# Altium schematic symbol library PLA2216_sonda.SchLib: 15 symbols
Pins are listed as number, name and electrical type; pins without a type are passive.

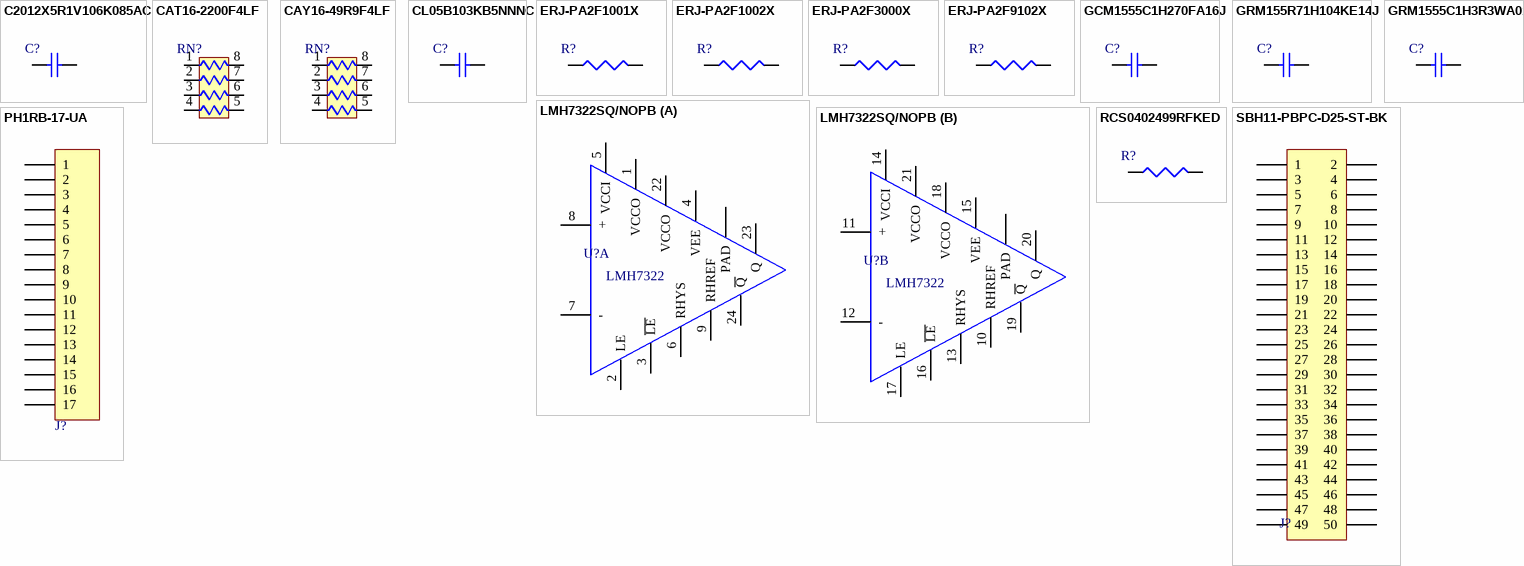
[diagram p0: symbols C2012X5R1V106K085AC to SBH11-PBPC-D25-ST-BK]

## C2012X5R1V106K085AC
designator C?, comment 10uF,35V  (value not drawn)
Multilayer Ceramic Capacitor, 10 uF, 35 V, ± 10%, X5R, 0805 [2012 Metric]; Manufacturer: TDK; Manufacturer Part Number: C2012X5R1V106K085AC; Material: 4241ConductorMaterial; RoHS: Yes; Stock 1: 379667; Pricing 1: 1=0,49, 10=0,326, 50=0,24, 100=0,1955, 500=0,15434, 1000=0,13034 (USD); ComponentLink1URL: https://datasheet.ciiva.com/14894/tdkmlcccaprange-14894527.pdf?src-supplier=Digikey; ComponentLink1Description: https://datasheet.ciiva.com/14894/tdkmlcccaprange-14894527.pdf?src-supplier=Digikey; Supplier 1: Digikey; Supplier Part Number 1: 445-14417-1-ND; Category: Ceramic Capacitors
footprint C0805
pins: 1, 2

## CAT16-2200F4LF
designator RN?, comment 220R  (value not drawn)
Res Thick Film Array 220 Ohm 1% ISOL Molded 8-Pin 1206(4 X 0603) Concave SMD Paper T/R; Manufacturer Part Number: CAT16-2200F4LF; Manufacturer: Bourns; RoHS: Yes; Stock 1: 22371; Pricing 1: 1=0,13, 10=0,11, 25=0,08, 50=0,0622, 100=0,0422, 250=0,03468, 500=0,02756, 1000=0,01955 (USD); ComponentLink1URL: https://datasheet.ciiva.com/30021/catcay-30021055.pdf?src-supplier=Avnet; ComponentLink1Description: https://datasheet.ciiva.com/30021/catcay-30021055.pdf?src-supplier=Avnet; ComponentLink2URL: https://datasheet.ciiva.com/6494/catcay-6494207.pdf?src-supplier=Digikey; ComponentLink2Description: https://datasheet.ciiva.com/6494/catcay-6494207.pdf?src-supplier=Digikey; ComponentLink3URL: https://datasheet.ciiva.com/6494/catcay-6494213.pdf?src-supplier=Digikey; ComponentLink3Description: https://datasheet.ciiva.com/6494/catcay-6494213.pdf?src-supplier=Digikey; Supplier 1: Digikey; Supplier Part Number 1: CAT16-2200F4LFCT-ND; Category: Resistor Arrays
pins: 1, 2, 3, 4, 5, 6, 7, 8

## CAY16-49R9F4LF
designator RN?, comment 49R9  (value not drawn)
Res Thick Film Array 49.9 Ohm 1% 0.25W(1/4W) ±200ppm/C ISOL 8-Pin 1206(4 X 0603) Convex SMD T/R; Manufacturer: Bourns; Manufacturer Part Number: CAY16-49R9F4LF; RoHS: Yes; Stock 1: 58828; Pricing 1: 1=0,1, 10=0,082, 25=0,06, 50=0,0466, 100=0,0317, 250=0,026, 500=0,02066, 1000=0,01467 (USD); ComponentLink1URL: https://datasheet.ciiva.com/5023/catcay-5693-5023814.pdf?src-supplier=Mouser; ComponentLink1Description: https://datasheet.ciiva.com/5023/catcay-5693-5023814.pdf?src-supplier=Mouser; ComponentLink2URL: https://datasheet.ciiva.com/6533/catcay-6533639.pdf?src-supplier=Digikey; ComponentLink2Description: https://datasheet.ciiva.com/6533/catcay-6533639.pdf?src-supplier=Digikey; ComponentLink3URL: https://datasheet.ciiva.com/6533/catcay-6533641.pdf?src-supplier=Digikey; ComponentLink3Description: https://datasheet.ciiva.com/6533/catcay-6533641.pdf?src-supplier=Digikey; ComponentLink4URL: https://datasheet.ciiva.com/6533/catcay-6533643.pdf?src-supplier=Digikey; ComponentLink4Description: https://datasheet.ciiva.com/6533/catcay-6533643.pdf?src-supplier=Digikey; ComponentLink5URL: https://datasheet.ciiva.com/3264/catcay-3264893.pdf?src-supplier=Avnet; ComponentLink5Description: https://datasheet.ciiva.com/3264/catcay-3264893.pdf?src-supplier=Avnet; ComponentLink6URL: https://datasheet.ciiva.com/3264/catcay-3264894.pdf?src-supplier=Avnet; ComponentLink6Description: https://datasheet.ciiva.com/3264/catcay-3264894.pdf?src-supplier=Avnet; ComponentLink7URL: https://datasheet.ciiva.com/14583/70155479-14583853.pdf?src-supplier=Allied+Electronics; ComponentLink7Description: https://datasheet.ciiva.com/14583/70155479-14583853.pdf?src-supplier=Allied+Electronics; ComponentLink8URL: https://datasheet.ciiva.com/1478/1849489-1478915.pdf?src-supplier=Element14; ComponentLink8Description: https://datasheet.ciiva.com/1478/1849489-1478915.pdf?src-supplier=Element14; ComponentLink9URL: https://datasheet.ciiva.com/48692/001055403-da-01-en-wid-arr-cay16-49r9f4lf-49-9-ohm-4-w-1206-48692314.pdf?src-supplier=Conrad; ComponentLink9Description: https://datasheet.ciiva.com/48692/001055403-da-01-en-wid-arr-cay16-49r9f4lf-49-9-ohm-4-w-1206-48692314.pdf?src-supplier=Conrad; Supplier 1: Digikey; Category: Resistor Arrays; Supplier Part Number 1: CAY16-49R9F4LFCT-ND
pins: 1, 2, 3, 4, 5, 6, 7, 8

## CL05B103KB5NNNC
designator C?, comment 10nF  (value not drawn)
Multilayer Ceramic Capacitor, 0.01 uF, 50 V, ± 10%, X7R, 0402 [1005 Metric]; Manufacturer Part Number: CL05B103KB5NNNC; Manufacturer: Samsung; Voltage Rating: 50V; RoHS: Yes; Stock 1: 5417081; Pricing 1: 1=0,1, 10=0,014, 50=0,008, 100=0,0062, 500=0,0047, 1000=0,00369, 2500=0,00336, 5000=0,00309 (USD); Mount: Surface Mount; Case/Package: 0402; Case Code (Metric): 1005; Case Code (Imperial): 0402; Material: Ceramic; Min Operating Temperature: -55°C; Max Operating Temperature: 125°C; Tolerance: 10%; Packaging: Tape and Reel; Capacitance: 10nF; Dielectric: X7R; Voltage: 50V; Series: CL; Construction: Flat; Voltage Rating (DC): 50V; Package Quantity: 1; Length: 1mm; Width: 0.02inch; Height: 0.5mm; Depth: 0.5mm; Thickness: 0.022inch; Radiation Hardening: No; RoHS Compliant: Yes; Lead Free: 5697LeadFree; ComponentLink1URL: https://datasheet.ciiva.com/15195/getdatasheetpartid-359682-15195636.pdf?src-supplier=Verical; ComponentLink1Description: https://datasheet.ciiva.com/15195/getdatasheetpartid-359682-15195636.pdf?src-supplier=Verical; ComponentLink2URL: https://datasheet.ciiva.com/29198/458761-da-01-en-vs-kondensator-0402-29198432.pdf?src-supplier=Conrad; ComponentLink2Description: https://datasheet.ciiva.com/29198/458761-da-01-en-vs-kondensator-0402-29198432.pdf?src-supplier=Conrad; ComponentLink3URL: https://datasheet.ciiva.com/26309/mlcc-catalogdownload2013-eng-26309005.pdf?src-supplier=Distrelec; ComponentLink3Description: https://datasheet.ciiva.com/26309/mlcc-catalogdownload2013-eng-26309005.pdf?src-supplier=Distrelec; Category: Ceramic Capacitors; Supplier Part Number 1: 1276-1028-1-ND; Supplier 1: Digikey
pins: 1, 2

## ERJ-PA2F1001X
designator R?, comment 1k  (value not drawn)
Res Thick Film 0402 1K Ohm 1% 1/5W ±100ppm/°C Molded SMD Punched Paper T/R; Manufacturer Part Number: ERJ-PA2F1001X; Manufacturer: Panasonic; Resistance: 1kR; Max Power Dissipation: 200mW; RoHS: Yes; Stock 1: 256164; Pricing 1: 1=0,23, 10=0,117, 50=0,0782, 100=0,0667, 500=0,04782, 1000=0,04209, 5000=0,03226 (USD); Case/Package: 0402; Case Code (Metric): 1005; Case Code (Imperial): 0402; Min Operating Temperature: -55°C; Max Operating Temperature: 155°C; Packaging: Cut Tape; Temperature Coefficient: 100ppm/°C; Number of Terminations: 2; Tolerance: 1%; Features: Automotive AEC-Q200; Series: ERJ; Ratings: AEC-Q200; Category: Chip SMD Resistors; Supplier Part Number 1: P17224CT-ND; Supplier 1: Digikey
pins: 1, 2

## ERJ-PA2F1002X
designator R?, comment 10k  (value not drawn)
SMD Chip Resistor, 10 kOhm, ± 1%, 200 mW, 0402 [1005 Metric], Thick Film, Anti-Surge; Manufacturer: Panasonic; Manufacturer Part Number: ERJ-PA2F1002X; RoHS: Yes; Stock 1: 114781; Pricing 1: 1=0,23, 10=0,117, 50=0,0782, 100=0,0667, 500=0,04782, 1000=0,04209, 5000=0,03226 (USD); ComponentLink1URL: https://datasheet.octopart.com/ERJ-PA2F1002X-Panasonic-datasheet-136608609.pdf?src-supplier=Farnell; ComponentLink1Description: https://datasheet.octopart.com/ERJ-PA2F1002X-Panasonic-datasheet-136608609.pdf?src-supplier=Farnell; ComponentLink2URL: https://datasheet.octopart.com/ERJ-PA2F1002X-Panasonic-datasheet-62334979.pdf?src-supplier=Element14; ComponentLink2Description: https://datasheet.octopart.com/ERJ-PA2F1002X-Panasonic-datasheet-62334979.pdf?src-supplier=Element14; ComponentLink3URL: http://www.farnell.com/datasheets/2254497.pdf?src-supplier=Newark; ComponentLink3Description: http://www.farnell.com/datasheets/2254497.pdf?src-supplier=Newark; ComponentLink4URL: https://industrial.panasonic.com/ww/system/files/data/download/catalog/id_fixed-resistors_e_1.pdf?src-supplier=Digikey; ComponentLink4Description: https://industrial.panasonic.com/ww/system/files/data/download/catalog/id_fixed-resistors_e_1.pdf?src-supplier=Digikey; Supplier 1: Digikey; Supplier Part Number 1: P17230CT-ND; Category: Chip SMD Resistors
pins: 1, 2

## ERJ-PA2F3000X
designator R?, comment 300R  (value not drawn)
Res Thick Film 0402 300 Ohm 1% 0.2W(1/5W) ±100ppm/C Pad SMD Automotive T/R; Manufacturer: Panasonic; Manufacturer Part Number: ERJ-PA2F3000X; RoHS: No; Stock 1: 39362; Pricing 1: 1=0,23, 10=0,117, 50=0,0782, 100=0,0667, 500=0,04782, 1000=0,04209, 5000=0,03226 (USD); ComponentLink1URL: https://datasheet.octopart.com/ERJ-PA2F3000X-Panasonic-datasheet-175421126.pdf?src-supplier=Element14; ComponentLink1Description: https://datasheet.octopart.com/ERJ-PA2F3000X-Panasonic-datasheet-175421126.pdf?src-supplier=Element14; ComponentLink2URL: https://datasheet.octopart.com/ERJ-PA2F3000X-Panasonic-datasheet-68299097.pdf?src-supplier=Future+Electronics; ComponentLink2Description: https://datasheet.octopart.com/ERJ-PA2F3000X-Panasonic-datasheet-68299097.pdf?src-supplier=Future+Electronics; ComponentLink3URL: https://datasheet.octopart.com/ERJ-PA2F3000X-Panasonic-datasheet-175421126.pdf?src-supplier=Farnell; ComponentLink3Description: https://datasheet.octopart.com/ERJ-PA2F3000X-Panasonic-datasheet-175421126.pdf?src-supplier=Farnell; ComponentLink4URL: https://industrial.panasonic.com/cdbs/www-data/pdf/RDO0000/AOA0000C331.pdf?src-supplier=Digikey; ComponentLink4Description: https://industrial.panasonic.com/cdbs/www-data/pdf/RDO0000/AOA0000C331.pdf?src-supplier=Digikey; Supplier 1: Digikey; Supplier Part Number 1: P124467CT-ND; Category: Chip SMD Resistors
pins: 1, 2

## ERJ-PA2F9102X
designator R?, comment 91k  (value not drawn)
Res 91K Ohm 1% 1/4W 0402; Manufacturer: Panasonic; Manufacturer Part Number: ERJ-PA2F9102X; Power Rating: 200mW; Resistance: 91kR; Voltage Rating (DC): 50V; RoHS: No; Stock 1: 7422; Pricing 1: 1=0,23, 10=0,117, 50=0,0782, 100=0,0667, 500=0,04782, 1000=0,04209, 5000=0,03226 (USD); ComponentLink1URL: https://industrial.panasonic.com/cdbs/www-data/pdf/RDO0000/AOA0000C331.pdf?src-supplier=Digikey; ComponentLink1Description: https://industrial.panasonic.com/cdbs/www-data/pdf/RDO0000/AOA0000C331.pdf?src-supplier=Digikey; Supplier Part Number 1: P124514CT-ND; Supplier 1: Digikey; Category: Chip SMD Resistors
pins: 1, 2

## GCM1555C1H270FA16J
designator C?, comment 3,3pF  (value not drawn)
Cap Ceramic 27pF 50V C0G 1% Pad SMD 0402 125C Automotive T/R; Manufacturer: Murata; Manufacturer Part Number: GCM1555C1H270FA16J; RoHS: Yes; Stock 1: 122327; Pricing 1: 1=0,11, 10=0,073, 50=0,042, 100=0,0326, 500=0,02452, 1000=0,01926, 2500=0,01751, 5000=0,01611 (USD); RoHS Compliant: Yes; Supplier 1: Digikey; Supplier Part Number 1: 490-GCM1555C1H270FA16JCT-ND; Category: Ceramic Capacitors
pins: 1, 2

## GRM155R71H104KE14J
designator C?, comment 100nF  (value not drawn)
Multilayer Ceramic Capacitor, 0.1 uF, 50 V, ± 10%, X7R, 0402 [1005 Metric]; Manufacturer Part Number: GRM155R71H104KE14J; Manufacturer: Murata; Material: 4241ConductorMaterial; Voltage Rating: 50V; RoHS: Yes; Stock 1: 5212572; Pricing 1: 1=0,1, 10=0,026, 50=0,0148, 100=0,0115, 500=0,00866, 1000=0,0068, 2500=0,00618, 5000=0,00569 (USD); Mount: Surface Mount; Case/Package: 0402; Number of Pins: 2NUMBER; Case Code (Metric): 1005; Case Code (Imperial): 0402; Weight: 0.000212oz; Min Operating Temperature: -55°C; Max Operating Temperature: 125°C; Packaging: Tape and Reel; Capacitance: 100nF; Tolerance: 10%; Dielectric: X7R; Termination: SMD/SMT; Voltage Rating (DC): 50V; Package Quantity: 50000; Series: GRM; Length: 0.039inch; Width: 0.02inch; Height: 0.5mm; Thickness: 0.022inch; Lead Free: Lead Free; RoHS Compliant: Yes; ComponentLink1URL: https://datasheet.octopart.com/GRM155R71H104KE14J-Murata-datasheet-155345058.pdf?src-supplier=Element14; ComponentLink1Description: https://datasheet.octopart.com/GRM155R71H104KE14J-Murata-datasheet-155345058.pdf?src-supplier=Element14; ComponentLink2URL: http://search.murata.co.jp/Ceramy/image/img/A01X/G101/ENG/GRM155R71H104KE14-01.pdf?src-supplier=Digikey; ComponentLink2Description: http://search.murata.co.jp/Ceramy/image/img/A01X/G101/ENG/GRM155R71H104KE14-01.pdf?src-supplier=Digikey; ComponentLink3URL: https://datasheet.octopart.com/GRM155R71H104KE14J-Murata-datasheet-32479577.pdf?src-supplier=Future+Electronics; ComponentLink3Description: https://datasheet.octopart.com/GRM155R71H104KE14J-Murata-datasheet-32479577.pdf?src-supplier=Future+Electronics; ComponentLink4URL: http://search.murata.co.jp/Ceramy/image/img/A01X/G101/ENG/GRM155R71H104KE14-01.pdf?src-supplier=Mouser; ComponentLink4Description: http://search.murata.co.jp/Ceramy/image/img/A01X/G101/ENG/GRM155R71H104KE14-01.pdf?src-supplier=Mouser; ComponentLink5URL: http://search.murata.co.jp/Ceramy/image/img/A01X/G101/ENG/GRM155R71H104KE14-01.pdf?src-supplier=Avnet; ComponentLink5Description: http://search.murata.co.jp/Ceramy/image/img/A01X/G101/ENG/GRM155R71H104KE14-01.pdf?src-supplier=Avnet; ComponentLink6URL: https://datasheet.octopart.com/GRM155R71H104KE14J-Murata-datasheet-165579666.pdf?src-supplier=TME; ComponentLink6Description: https://datasheet.octopart.com/GRM155R71H104KE14J-Murata-datasheet-165579666.pdf?src-supplier=TME; Category: Ceramic Capacitors; Supplier Part Number 1: 490-13342-1-ND; Supplier 1: Digikey
pins: 1, 2

## GRM1555C1H3R3WA01D
designator C?, comment 27pF  (value not drawn)
Multilayer Ceramic Capacitors MLCC - SMD/SMT 0402 3.3pF 50volts C0G +/-0.05pF; Manufacturer Part Number: GRM1555C1H3R3WA01D; Manufacturer: Murata; RoHS: Yes; Stock 1: 123966; Pricing 1: 1=0,12, 10=0,083, 50=0,0498, 100=0,0391, 500=0,0289, 1000=0,02393, 2500=0,02227, 5000=0,02037 (USD); ComponentLink1URL: https://datasheet.ciiva.com/11614/product-11614456.pdf?src-supplier=Avnet; ComponentLink1Description: https://datasheet.ciiva.com/11614/product-11614456.pdf?src-supplier=Avnet; ComponentLink2URL: https://datasheet.ciiva.com/29541/partnumbering-e-01-29541621.pdf?src-supplier=Digikey; ComponentLink2Description: https://datasheet.ciiva.com/29541/partnumbering-e-01-29541621.pdf?src-supplier=Digikey; ComponentLink3URL: https://datasheet.ciiva.com/29541/partnumbering-e-01-29541622.pdf?src-supplier=Digikey; ComponentLink3Description: https://datasheet.ciiva.com/29541/partnumbering-e-01-29541622.pdf?src-supplier=Digikey; Supplier Part Number 1: 490-7757-1-ND; Supplier 1: Digikey; Category: Ceramic Capacitors
pins: 1, 2

## LMH7322SQ/NOPB
designator U?, comment LMH7322  (value not drawn)
Dual 700 ps High Speed Comparator with SPECL Outputs 24-WQFN -40 to 125; Manufacturer Part Number: LMH7322SQ/NOPB; Manufacturer: TI National Semiconductor; RoHS: Yes; Stock 1: 2480; Pricing 1: 1=10,09, 10=9,116, 25=8,692, 100=7,5472, 250=7,20796, 500=6,57196 (USD); ComponentLink1URL: https://datasheet.ciiva.com/2972/lmh7322-2972033.pdf?src-supplier=Avnet; ComponentLink1Description: https://datasheet.ciiva.com/2972/lmh7322-2972033.pdf?src-supplier=Avnet; ComponentLink2URL: https://datasheet.ciiva.com/15130/getdatasheetpartid-158865-15130938.pdf?src-supplier=Verical; ComponentLink2Description: https://datasheet.ciiva.com/15130/getdatasheetpartid-158865-15130938.pdf?src-supplier=Verical; ComponentLink3URL: https://datasheet.ciiva.com/6624/lmh7322-6624630.pdf?src-supplier=Digikey; ComponentLink3Description: https://datasheet.ciiva.com/6624/lmh7322-6624630.pdf?src-supplier=Digikey; ComponentLink4URL: https://datasheet.ciiva.com/6624/lmh7322-6624631.pdf?src-supplier=Digikey; ComponentLink4Description: https://datasheet.ciiva.com/6624/lmh7322-6624631.pdf?src-supplier=Digikey; ComponentLink5URL: https://datasheet.ciiva.com/6624/lmh7322-6624632.pdf?src-supplier=Digikey; ComponentLink5Description: https://datasheet.ciiva.com/6624/lmh7322-6624632.pdf?src-supplier=Digikey; ComponentLink6URL: https://datasheet.ciiva.com/48706/001073113-da-01-en-ic-comparator-lmh7322sq-nopb-wson-24-tid-48706587.pdf?src-supplier=Conrad; ComponentLink6Description: https://datasheet.ciiva.com/48706/001073113-da-01-en-ic-comparator-lmh7322sq-nopb-wson-24-tid-48706587.pdf?src-supplier=Conrad; Supplier 1: Digikey; Category: Amplifiers - Op Amps, Buffer, Instrumentation; Supplier Part Number 1: 296-35573-1-ND
part A pins: 1 VCCO, 2 LE, 3 ~{LE}, 4 VEE, 5 VCCI, 6 RHYS, 7 -, 8 +, 9 RHREF, 22 VCCO, 23 Q, 24 ~{Q}, PAD
part B pins: 10 RHREF, 11 +, 12 -, 13 RHYS, 14 VCCI, 15 VEE, 16 ~{LE}, 17 LE, 18 VCCO, 19 ~{Q}, 20 Q, 21 VCCO, PAD

## PH1RB-17-UA
designator J?, comment Header 17X1vf  (value not drawn)
Conn Unshrouded Header HDR 17 POS 2.54mm Solder RA Thru-Hole; Manufacturer: Adam Equipment; Manufacturer Part Number: PH1RB-17-UA; RoHS: No; Stock 1: 418; Pricing 1: 1=0,39, 10=0,33, 100=0,2569 (USD); Supplier 1: Digikey; Supplier Part Number 1: 2057-PH1RB-17-UA-ND; Category: Connectors
pins: 1, 2, 3, 4, 5, 6, 7, 8, 9, 10, 11, 12, 13, 14, 15, 16, 17

## RCS0402499RFKED
designator R?, comment 499R  (value not drawn)
Res Thick Film 0402 499Ohm 1% 1/5W ±100ppm/K Molded Paper T/R; Manufacturer: Vishay Dale; Manufacturer Part Number: RCS0402499RFKED; Max Power Dissipation: 200mW; Temperature Coefficient: 100ppm/°C; RoHS: Yes; Stock 1: 68204; Pricing 1: 1=0,11, 10=0,054, 50=0,035, 100=0,0297, 500=0,02092, 1000=0,01822, 5000=0,0137 (USD); Case/Package: 0402; Case Code (Metric): 1005; Case Code (Imperial): 0402; Min Operating Temperature: -55°C; Max Operating Temperature: 155°C; Packaging: Cut Tape; Resistance: 499R; Number of Terminations: 2; Tolerance: 1%; Features: Automotive AEC-Q200; Series: RCS e3; Ratings: AEC-Q200; ComponentLink1URL: http://www.vishay.com/docs/20065/rcse3.pdf?src-supplier=Digikey; ComponentLink1Description: http://www.vishay.com/docs/20065/rcse3.pdf?src-supplier=Digikey; Category: Chip SMD Resistors; Supplier Part Number 1: 541-2887-1-ND; Supplier 1: Digikey
pins: 1, 2

## SBH11-PBPC-D25-ST-BK
designator J?, comment Header 25X2  (value not drawn)
50 Position Total Dual Row 2.54 mm Pitch Straight Male Shrouded Box Header; Manufacturer: Sullins; Manufacturer Part Number: SBH11-PBPC-D25-ST-BK; RoHS: Yes; Stock 1: 10015; Pricing 1: 1=1,03, 10=0,867, 80=0,77875, 440=0,63718, 1000=0,56638, 5000=0,5057 (USD); ComponentLink1URL: https://datasheet.ciiva.com/730/sbh11-pbpc-dxx-st-xx-730923.pdf?src-supplier=Digikey; ComponentLink1Description: https://datasheet.ciiva.com/730/sbh11-pbpc-dxx-st-xx-730923.pdf?src-supplier=Digikey; Supplier 1: Digikey; Supplier Part Number 1: S9176-ND; Category: Headers and Wire Housings
pins: 1, 2, 3, 4, 5, 6, 7, 8, 9, 10, 11, 12, 13, 14, 15, 16, 17, 18, 19, 20, 21, 22, 23, 24, 25, 26, 27, 28, 29, 30, 31, 32, 33, 34, 35, 36, 37, 38, 39, 40, 41, 42, 43, 44, 45, 46, 47, 48, 49, 50